# EAGLE library part MCP23008 (library Components)
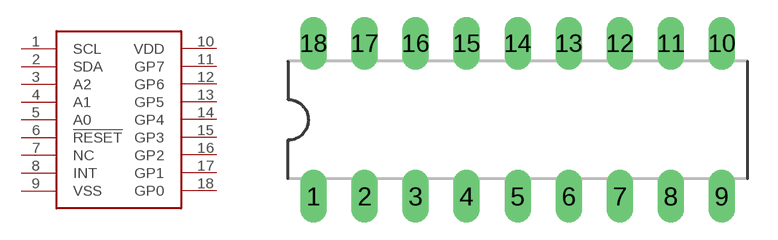
[diagram p12: symbol with the pads of DIL18; footprint DIL18]

Designator prefix -

## MCP23008  [DIL18]
1  SCL
2  SDA
3  A2
4  A1
5  A0
6  !RESET
7  NC
8  INT
9  VSS
10  VDD
11  GP7
12  GP6
13  GP5
14  GP4
15  GP3
16  GP2
17  GP1
18  GP0

## Footprint DIL18 (pad centres in mm)
Dual In Line Package
drill 0.813 long: 1 -10.16,-3.81; 2 -7.62,-3.81; 3 -5.08,-3.81; 4 -2.54,-3.81; 5 0,-3.81; 6 2.54,-3.81; 7 5.08,-3.81; 8 7.62,-3.81; 9 10.16,-3.81; 10 10.16,3.81; 11 7.62,3.81; 12 5.08,3.81; 13 2.54,3.81; 14 0,3.81; 15 -2.54,3.81; 16 -5.08,3.81; 17 -7.62,3.81; 18 -10.16,3.81